# EAGLE library part SIM5320E (library sim800v2)
create by mikroavr.co sim5320, 2G/3G modul
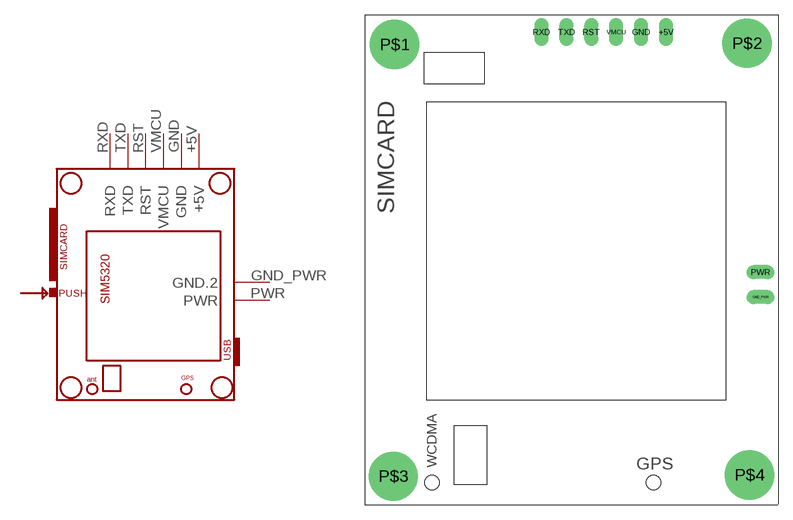
[diagram p1: symbol with the pads of SIM5320E; footprint SIM5320E]

Designator prefix -

## SIM5320E  [SIM5320E]
+5V  +5V
GND  GND
GND_PWR  GND.2
PWR  PWR
RST  RST
RXD  RXD
TXD  TXD
VMCU  VMCU

## Footprint SIM5320E (pad centres in mm)
SIM800 v2 MODUL crete by mikroavr.com
drill 0.914 long: +5V 30.734,-1.778; GND 28.194,-1.778; GND_PWR 40.386,-28.829; PWR 40.386,-26.289; RST 23.114,-1.778; RXD 18.034,-1.778; TXD 20.574,-1.778; VMCU 25.654,-1.778
drill 4.013: P$1 3.048,-3.048; P$2 38.989,-2.921; P$3 2.921,-47.117; P$4 39.243,-46.99